# Altium footprint library Footprint_Emile.PcbLib: 28 footprints (part 2 of 2)
Each footprint in its own frame and in the unit in brackets; x right, y up, seen from the top. Pads: shape width x height; smd on the part's side, far side on the other; paste and mask are expansions set on the pad; w line width, h text height; cw(c..) or ccw(c..) is an arc to the next point about the centre after c.
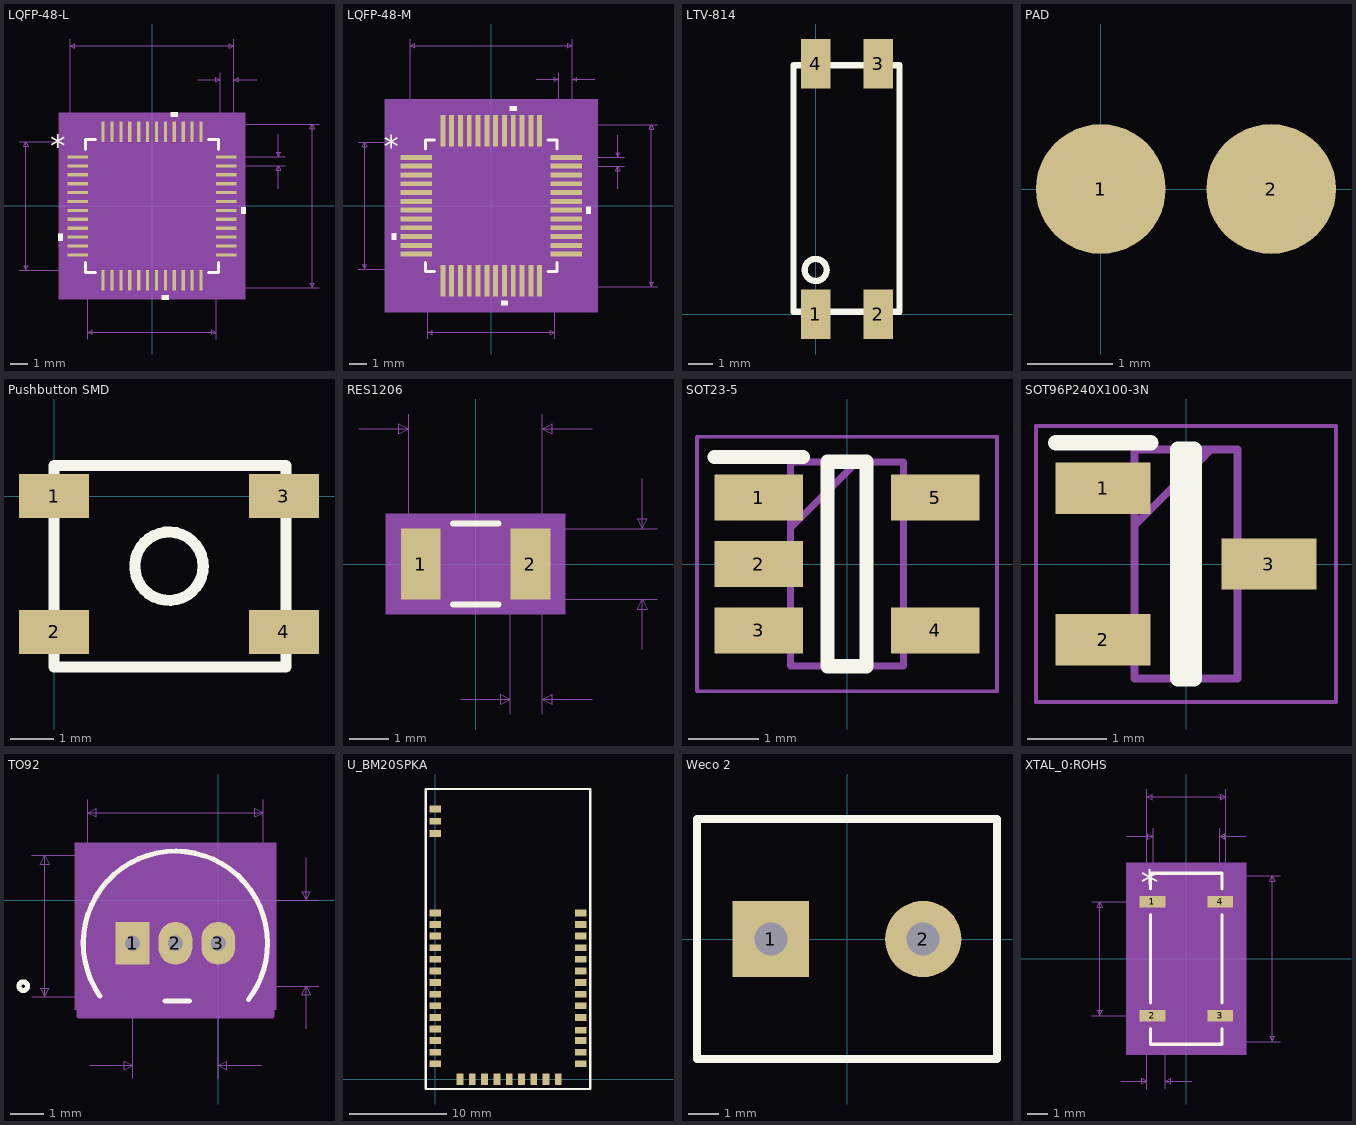
[diagram p1: the footprints below, top view; thin cyan lines are the x and y axes]

## LQFP-48-L [mil]
pads (48):
  rect 46x7 smd paste+0 mask+0: 1(-164,108.27) 2(-164,88.58) 3(-164,68.9) 4(-164,49.21) 5(-164,29.53) 6(-164,9.84) 7(-164,-9.84) 8(-164,-29.53) 9(-164,-49.21) 10(-164,-68.9) 11(-164,-88.58) 12(-164,-108.27) 25(164,-108.27) 26(164,-88.58) 27(164,-68.9) 28(164,-49.21) 29(164,-29.53) 30(164,-9.84) 31(164,9.84) 32(164,29.53) 33(164,49.21) 34(164,68.9) 35(164,88.58) 36(164,108.27)
  rect 7x46 smd paste+0 mask+0: 13(-108.27,-164) 14(-88.58,-164) 15(-68.9,-164) 16(-49.21,-164) 17(-29.53,-164) 18(-9.84,-164) 19(9.84,-164) 20(29.53,-164) 21(49.21,-164) 22(68.9,-164) 23(88.58,-164) 24(108.27,-164) 37(108.27,164) 38(88.58,164) 39(68.9,164) 40(49.21,164) 41(29.53,164) 42(9.84,164) 43(-9.84,164) 44(-29.53,164) 45(-49.21,164) 46(-68.9,164) 47(-88.58,164) 48(-108.27,164)
Top Overlay:
  region: -197,-61.4 -207,-61.4 -207,-76.4 -197,-76.4
  region: 37.03,-197 22.03,-197 22.03,-207 37.03,-207
  region: 197,-2.34 207,-2.34 207,-17.34 197,-17.34
  region: 56.71,197 41.71,197 41.71,207 56.71,207
  lines w6: -147,-124.87 -147,-147 -124.87,-147 ; -147,124.87 -147,147 -124.87,147 ; 124.87,-147 147,-147 147,-124.87 ; 124.87,147 147,147 147,124.87
  text "*" at -224.5,108.11 h50
Mechanical 5:
  region: 206,-206 -206,-206 -206,206 206,206
Mechanical 7:
  lines w1: -294,-142 -108.27,-142 ; -294,142 -108.27,142 ; -181,108.27 -181,369 ; -142,-294 -142,-108.27 ; 101,279 151,279 ; 108.27,-181 369,-181 ; 108.27,181 369,181 ; 142,-294 142,-108.27 ; 151,108.27 151,294 ; 164,88.58 294,88.58 ; 164,108.27 294,108.27 ; 181,294 181,108.27 181,369 ; 231,279 181,279 ; 279,38.58 279,88.58 ; 279,158.27 279,108.27 ; -279,-142 -279,142 ; -279,-142 -284,-132 -274,-132 -279,-142 ; -279,142 -284,132 -274,132 -279,142 ; -181,354 181,354 ; -181,354 -171,359 -171,349 -181,354 ; -142,-279 142,-279 ; -142,-279 -132,-274 -132,-284 -142,-279 ; 142,-279 132,-274 132,-284 142,-279 ; 151,279 141,284 141,274 151,279 ; 181,279 191,284 191,274 181,279 ; 181,354 171,359 171,349 181,354 ; 279,88.58 274,78.58 284,78.58 279,88.58 ; 279,108.27 274,118.27 284,118.27 279,108.27 ; 354,-181 354,181 ; 354,-181 349,-171 359,-171 354,-181 ; 354,181 349,171 359,171 354,181
  text "Default Horiz Padstyle: RX7Y46D0T" at -412.5,-429 h50
  text "Default Vert Padstyle: RX7Y46D0T" at -400,-489 h50
  text "Alt 1 Padstyle: OX60Y90D30P" at -337.5,-669 h50
  text "Alt 2 Padstyle: OX90Y60D30P" at -337.5,-729 h50
  text "0.02in/0.5mm" at 299,85.93 h25
  text "0.03in/0.762mm" at 78.5,299 h25
  text "0.362in/9.195mm" at -93.75,374 h25
  text "0.284in/7.214mm" at -93.75,-324 h25
  text "0.284in/7.214mm" at -486.5,-12.5 h25
  text "0.362in/9.195mm" at 374,-12.5 h25
Mechanical 13:
  drawing of 197 lines, arcs and shapes, not listed
  text "*" at -139.5,93.11 h50
Mechanical 15:
  region: -115.77,-146 -146,-146 -146,-115.77 -191,-115.77 -191,115.77 -146,115.77 -146,146 -115.77,146 -115.77,191 115.77,191 115.77,146 146,146 146,115.77 191,115.77 191,-115.77 146,-115.77 146,-146 115.77,-146 115.77,-191 -115.77,-191
  lines w6: -191,-115.77 -146,-115.77 -146,-146 -115.77,-146 -115.77,-191 115.77,-191 115.77,-146 146,-146 146,-115.77 191,-115.77 191,115.77 146,115.77 146,146 115.77,146 115.77,191 -115.77,191 -115.77,146 -146,146 -146,115.77 -191,115.77 -191,-115.77
3D body: height 10, standoff 0, extent 0,0 10,10

## LQFP-48-M [mil]
pads (48):
  rect 70x11 smd paste+0 mask+0: 1(-168,108.27) 2(-168,88.58) 3(-168,68.9) 4(-168,49.21) 5(-168,29.53) 6(-168,9.84) 7(-168,-9.84) 8(-168,-29.53) 9(-168,-49.21) 10(-168,-68.9) 11(-168,-88.58) 12(-168,-108.27) 25(168,-108.27) 26(168,-88.58) 27(168,-68.9) 28(168,-49.21) 29(168,-29.53) 30(168,-9.84) 31(168,9.84) 32(168,29.53) 33(168,49.21) 34(168,68.9) 35(168,88.58) 36(168,108.27)
  rect 11x70 smd paste+0 mask+0: 13(-108.27,-168) 14(-88.58,-168) 15(-68.9,-168) 16(-49.21,-168) 17(-29.53,-168) 18(-9.84,-168) 19(9.84,-168) 20(29.53,-168) 21(49.21,-168) 22(68.9,-168) 23(88.58,-168) 24(108.27,-168) 37(108.27,168) 38(88.58,168) 39(68.9,168) 40(49.21,168) 41(29.53,168) 42(9.84,168) 43(-9.84,168) 44(-29.53,168) 45(-49.21,168) 46(-68.9,168) 47(-88.58,168) 48(-108.27,168)
Top Overlay:
  region: -213,-61.4 -223,-61.4 -223,-76.4 -213,-76.4
  region: 37.03,-213 22.03,-213 22.03,-223 37.03,-223
  region: 213,-2.34 223,-2.34 223,-17.34 213,-17.34
  region: 56.71,213 41.71,213 41.71,223 56.71,223
  lines w6: -147,-126.87 -147,-147 -126.87,-147 ; -147,126.87 -147,147 -126.87,147 ; 126.87,-147 147,-147 147,-126.87 ; 126.87,147 147,147 147,126.87
  text "*" at -240.5,108.11 h50
Mechanical 5:
  region: 238,-238 -238,-238 -238,238 238,238
Mechanical 7:
  lines w1: -298,-142 -108.27,-142 ; -298,142 -108.27,142 ; -181,108.27 -181,373 ; -142,-298 -142,-108.27 ; 101,283 151,283 ; 108.27,-181 373,-181 ; 108.27,181 373,181 ; 142,-298 142,-108.27 ; 151,108.27 151,298 ; 168,88.58 298,88.58 ; 168,108.27 298,108.27 ; 181,298 181,108.27 181,373 ; 231,283 181,283 ; 283,38.58 283,88.58 ; 283,158.27 283,108.27 ; -283,-142 -283,142 ; -283,-142 -288,-132 -278,-132 -283,-142 ; -283,142 -288,132 -278,132 -283,142 ; -181,358 181,358 ; -181,358 -171,363 -171,353 -181,358 ; -142,-283 142,-283 ; -142,-283 -132,-278 -132,-288 -142,-283 ; 142,-283 132,-278 132,-288 142,-283 ; 151,283 141,288 141,278 151,283 ; 181,283 191,288 191,278 181,283 ; 181,358 171,363 171,353 181,358 ; 283,88.58 278,78.58 288,78.58 283,88.58 ; 283,108.27 278,118.27 288,118.27 283,108.27 ; 358,-181 358,181 ; 358,-181 353,-171 363,-171 358,-181 ; 358,181 353,171 363,171 358,181
  text "Default Horiz Padstyle: RX11Y70D0T" at -425,-433 h50
  text "Default Vert Padstyle: RX11Y70D0T" at -412.5,-493 h50
  text "Alt 1 Padstyle: OX60Y90D30P" at -337.5,-673 h50
  text "Alt 2 Padstyle: OX90Y60D30P" at -337.5,-733 h50
  text "0.02in/0.5mm" at 303,85.93 h25
  text "0.03in/0.762mm" at 78.5,303 h25
  text "0.362in/9.195mm" at -93.75,378 h25
  text "0.284in/7.214mm" at -93.75,-328 h25
  text "0.284in/7.214mm" at -490.5,-12.5 h25
  text "0.362in/9.195mm" at 378,-12.5 h25
Mechanical 13:
  drawing of 197 lines, arcs and shapes, not listed
  text "*" at -139.5,93.11 h50
Mechanical 15:
  region: -133.77,-162 -162,-162 -162,-133.77 -223,-133.77 -223,133.77 -162,133.77 -162,162 -133.77,162 -133.77,223 133.77,223 133.77,162 162,162 162,133.77 223,133.77 223,-133.77 162,-133.77 162,-162 133.77,-162 133.77,-223 -133.77,-223
  lines w6: -223,-133.77 -162,-133.77 -162,-162 -133.77,-162 -133.77,-223 133.77,-223 133.77,-162 162,-162 162,-133.77 223,-133.77 223,133.77 162,133.77 162,162 133.77,162 133.77,223 -133.77,223 -133.77,162 -162,162 -162,133.77 -223,133.77 -223,-133.77
3D body: height 10, standoff 0, extent 0,0 10,10

## LTV-814 [mm]
pads (4):
  rect 1.2x2 smd: 1(0,0) 2(2.54,0) 3(2.54,10.16) 4(0,10.16)
Top Overlay:
  circle w0.254: c0,1.8 r0.447
  lines w0.254: -0.9,0.1 3.4,0.1 3.4,10.1 -0.9,10.1 -0.9,0.1

## PAD [mil] "pad for connection"
pads (2):
  round 60 smd: 1(0,0) 2(78.74,0)

## Pushbutton SMD [mm]
pads (4):
  rect 1.6x1 smd: 1(0,0) 2(0,-3.1) 3(5.25,0) 4(5.25,-3.1)
Top Overlay:
  circle w0.254: c2.625,-1.6 r0.781
  lines w0.254: 0,-3.9 5.3,-3.9 5.3,0.7 0,0.7 0,-3.9
3D body: height 7, standoff 0, extent 1.111,-3.097 3.9,-0.303
3D body: height 2.5, standoff 0, extent 0,-3.9 5.3,0.7

## RES1206 [mil]
pads (2):
  rect 40x71 smd paste+0 mask+0: 1(-55,0) 2(55,0)
Top Overlay:
  lines w6: -22.89,-40.5 22.89,-40.5 ; -22.89,40.5 22.89,40.5
Mechanical 5:
  region: 90,-50.5 -90,-50.5 -90,50.5 90,50.5
Mechanical 7:
  lines w1: -117,135.5 -67,135.5 ; -67,0 -67,150.5 ; -15,-135.5 35,-135.5 ; 0,-35.5 182,-35.5 ; 0,35.5 182,35.5 ; 35,-150.5 35,0 ; 67,-150.5 67,0 67,150.5 ; 117,-135.5 67,-135.5 ; 117,135.5 67,135.5 ; 167,-85.5 167,-35.5 ; 167,85.5 167,35.5 ; -67,135.5 -77,140.5 -77,130.5 -67,135.5 ; 35,-135.5 25,-130.5 25,-140.5 35,-135.5 ; 67,-135.5 77,-130.5 77,-140.5 67,-135.5 ; 67,135.5 77,140.5 77,130.5 67,135.5 ; 167,-35.5 162,-45.5 172,-45.5 167,-35.5 ; 167,35.5 162,45.5 172,45.5 167,35.5
  text "Default Padstyle: RX40Y71D0T" at -350,-305.5 h50
  text "Alt 1 Padstyle: OX60Y90D30P" at -337.5,-365.5 h50
  text "Alt 2 Padstyle: OX90Y60D30P" at -337.5,-425.5 h50
  text "0.071in/1.803mm" at 187,-12.5 h25
  text "0.134in/3.404mm" at -93.75,155.5 h25
  text "0.032in/0.813mm" at -42.75,-180.5 h25
Mechanical 13:
  lines w1: -67,-35.5 -67,35.5 ; -67,-35.5 -35,-35.5 -35,35.5 -67,35.5 ; -67,-35.5 67,-35.5 ; -67,-35.5 -67,35.5 ; -67,35.5 67,35.5 ; 67,-35.5 35,-35.5 35,35.5 67,35.5 ; 67,-35.5 67,35.5 ; 67,-35.5 67,35.5
Mechanical 15:
  region: 85,-45.5 -85,-45.5 -85,45.5 85,45.5
  lines w6: -85,-45.5 -85,45.5 85,45.5 85,-45.5 -85,-45.5
3D body: height 10, standoff 0, extent 0,0 10,10
3D body "R1206.step": height 30, standoff 0, extent -67,-35.51 67.01,35.52

## SOT23-5 [mm]
pads (5):
  rect 1.25x0.65 smd: 1(-1.25,0.94) 2(-1.25,0) 3(-1.25,-0.94) 4(1.25,-0.94) 5(1.25,0.94)
Top Overlay:
  lines w0.2: -1.875,1.514 -0.625,1.514 ; -0.275,-1.448 -0.275,1.448 0.275,1.448 0.275,-1.448 -0.275,-1.448
Mechanical 13:
  lines w0.1: -0.8,0.508 0.14,1.448 ; -0.8,-1.448 -0.8,1.448 0.8,1.448 0.8,-1.448 -0.8,-1.448
Mechanical 15:
  lines w0.05: -2.125,-1.8 -2.125,1.8 2.125,1.8 2.125,-1.8 -2.125,-1.8
3D body "RT9193-28GB.stp": height 1.3, standoff 0, extent -1.397,-1.448 1.397,1.448

## SOT96P240X100-3N [mm]
pads (3):
  rect 1.2x0.65 smd: 1(-1.05,0.96) 2(-1.05,-0.96) 3(1.05,0)
Top Overlay:
  lines w0.2: -1.65,1.535 -0.45,1.535 ; -0.1,-1.45 -0.1,1.45 0.1,1.45 0.1,-1.45 -0.1,-1.45
Mechanical 13:
  lines w0.1: -0.65,0.49 0.31,1.45 ; -0.65,-1.45 -0.65,1.45 0.65,1.45 0.65,-1.45 -0.65,-1.45
Mechanical 15:
  lines w0.05: -1.9,-1.75 -1.9,1.75 1.9,1.75 1.9,-1.75 -1.9,-1.75
3D body "MOSFETSOT23.stp": height 1, standoff 0, extent -1.2,-1.45 1.2,1.45
3D body "DMN65D8L-7.stp": height 1, standoff 0, extent -1.2,-1.45 1.2,1.45

## TO92 [mm]
pads (3):
  rect 1x1.27 hole 0.45: 1(-2.54,-1.27)
  oval 1x1.27 hole 0.45: 2(-1.27,-1.27) 3(0,-1.27)
Top Overlay:
  circle w0.152: c-5.779,-2.54 r0.127
  lines w0.152: -3.508,-2.835 cw(c-1.27,-1.27) 1.46,-1.27 cw(c-1.27,-1.27) 0.894,-2.935 ; -1.572,-2.984 -0.86,-2.984
Mechanical 1:
  circle w0.1: c0,-1.27 r0.192
  circle w0.1: c-1.27,-1.27 r0.192
  circle w0.1: c-2.54,-1.27 r0.192
  lines w0.1: 0.745,-2.795 -3.294,-2.795 cw(c-1.27,-1.27) 0.75,-2.8
Mechanical 5:
  region: -4.255,1.714 1.714,1.714 1.714,-3.238 -4.255,-3.238
Mechanical 7:
  lines w0.025: -5.524,-2.857 -1.27,-2.857 ; -5.524,1.333 -1.27,1.333 ; -3.873,-1.27 -3.873,2.984 ; -3.81,-4.889 -2.54,-4.889 ; -2.54,-5.271 -2.54,-2.54 ; -1.016,0 2.984,0 ; 0,-5.271 0,-2.54 2.984,-2.54 ; 1.27,-4.889 0,-4.889 ; 1.333,-1.27 1.333,2.984 ; 2.603,-3.81 2.603,-2.54 ; 2.603,1.27 2.603,0 ; -5.143,-2.857 -5.016,-2.603 -5.271,-2.603 -5.143,-2.857 ; -5.143,-2.857 -5.143,1.333 ; -5.143,1.333 -5.016,1.079 -5.271,1.079 -5.143,1.333 ; -3.873,2.603 -3.619,2.476 -3.619,2.73 -3.873,2.603 ; -3.873,2.603 1.333,2.603 ; -2.54,-4.889 -2.794,-5.016 -2.794,-4.763 -2.54,-4.889 ; 0,-4.889 0.254,-5.016 0.254,-4.763 0,-4.889 ; 1.333,2.603 1.079,2.476 1.079,2.73 1.333,2.603 ; 2.603,-2.54 2.73,-2.794 2.476,-2.794 2.603,-2.54 ; 2.603,0 2.73,0.254 2.476,0.254 2.603,0
  text "0.165in/4.191mm" at -10.414,-1.587 h0.64
  text "0.1in/2.54mm" at -3.175,-6.032 h0.64
  text "0.1in/2.54mm" at 3.111,-1.587 h0.64
  text "0.205in/5.207mm" at -3.651,3.111 h0.64
  text "Alt 2 Padstyle: OX90Y60D30P" at -9.842,-14.287 h1.27
  text "Alt 1 Padstyle: OX60Y90D30P" at -9.842,-12.763 h1.27
  text "Pin 1 Padstyle: EX50Y50D30P" at -9.842,-11.239 h1.27
  text "Default Padstyle: SX50Y50D30P" at -10.477,-9.716 h1.27
  text "Pinout: 1, 2, 3" at -6.032,-8.191 h1.27
Mechanical 13:
  circle w0: c-3.619,-2.54 r0.127
  lines w0: -3.334,-2.857 cw(c-1.27,-1.27) 0.794,-2.857
  lines w0.025: -3.334,-2.857 0.794,-2.857
  lines w0.152: -2.794,-2.54 -2.286,-2.54 ; -2.54,-2.794 -2.54,-2.286
Mechanical 15:
  region: 1.587,-3.429 -4.127,-3.429 -4.127,1.587 1.587,1.587
  lines w0.152: -4.127,-3.429 1.587,-3.429 1.587,1.587 -4.127,1.587 -4.127,-3.429
3D body: height 0.25, standoff 0, extent -2.54,-1.27 -2.54,-1.27
3D body: height 4, standoff 0.5, extent -3.815,-2.8 1.275,1.264
3D body: height 0.5, standoff 0, extent -0.192,-1.462 0.192,-1.078
3D body: height 0.5, standoff 0, extent -1.462,-1.462 -1.078,-1.078
3D body: height 0.5, standoff 0, extent -2.732,-1.462 -2.348,-1.078

## U_BM20SPKA [mm]
pads (40):
  rect 1.2x0.7 smd: 1(0,17.2) 2(0,16) 3(0,14.8) 4(0,13.6) 5(0,12.4) 6(0,11.2) 7(0,10) 8(0,8.8) 9(0,7.6) 10(0,6.4) 11(0,5.2) 12(0,4) 13(0,2.8) 14(0,1.6) 24(15,1.6) 25(15,2.8) 26(15,4) 27(15,5.08) 28(15,6.4) 29(15,7.6) 30(15,8.8) 31(15,10) 32(15,11.2) 33(15,12.4) 34(15,13.6) 35(15,14.8) 36(15,16) 37(15,17.2) 38(0,26.67) 38(0,27.94) 40(0,25.4)
  rect 0.7x1.2 smd: 15(2.54,0) 16(3.81,0) 17(5.08,0) 18(6.35,0) 19(7.62,0) 20(8.89,0) 21(10.16,0) 22(11.43,0) 23(12.7,0)
Top Overlay:
  lines w0.254: -1,-1 -1,30 16,30 16,-1 -1,-1
3D body: height 2.5, standoff 0, extent 0,0 15,18.5
3D body: height 2.5, standoff 0, extent 0,0 0,0
3D body: height 0.6, standoff 0, extent 0,0 15,29

## Weco 2 [mm]
pads (2):
  rect 2.54x2.54 hole 1.1: 1(-2.54,0)
  round 2.54 hole 1.1: 2(2.54,0)
Top Overlay:
  lines w0.254: -5,-4 -5,4 5,4 5,-4 0,-4 -5,-4
3D body: height 10, standoff 0, extent -5,-4 5,4

## XTAL_0:ROHS [mm]
pads (4):
  rect 1.239x0.568 smd paste+0 mask+0: 1(-1.635,2.75) 2(-1.635,-2.75) 3(1.635,-2.75) 4(1.635,2.75)
Top Overlay:
  lines w0.152: -1.727,-3.367 -1.727,-4.127 1.727,-4.127 1.727,-3.367 ; -1.727,-2.133 -1.727,2.133 ; -1.727,3.367 -1.727,4.127 1.727,4.127 1.727,3.367 ; 1.727,-2.133 1.727,2.133
  text "*" at -2.207,3.034 h1.27
Mechanical 5:
  region: 2.89,-4.635 -2.89,-4.635 -2.89,4.635 2.89,4.635
Mechanical 7:
  lines w0.025: -4.557,-2.75 -1.635,-2.75 ; -4.557,2.75 -1.635,2.75 ; -3.175,-5.905 -1.905,-5.905 ; -2.87,5.905 -1.6,5.905 ; -1.905,-6.286 -1.905,0 -1.905,8.191 ; -1.6,0 -1.6,6.286 ; -1.016,-6.286 -1.016,0 ; 0,-4 4.521,-4 ; 0,4 4.521,4 ; 0.254,-5.905 -1.016,-5.905 ; 1.6,0 1.6,6.286 ; 1.905,0 1.905,8.191 ; 2.87,5.905 1.6,5.905 ; -4.176,-2.75 -4.176,2.75 ; -4.176,-2.75 -4.303,-2.496 -4.049,-2.496 -4.176,-2.75 ; -4.176,2.75 -4.303,2.496 -4.049,2.496 -4.176,2.75 ; -1.905,-5.905 -2.159,-5.779 -2.159,-6.032 -1.905,-5.905 ; -1.905,7.81 1.905,7.81 ; -1.905,7.81 -1.651,7.938 -1.651,7.683 -1.905,7.81 ; -1.6,5.905 -1.854,6.032 -1.854,5.779 -1.6,5.905 ; -1.016,-5.905 -0.762,-5.779 -0.762,-6.032 -1.016,-5.905 ; 1.6,5.905 1.854,6.032 1.854,5.779 1.6,5.905 ; 1.905,7.81 1.651,7.938 1.651,7.683 1.905,7.81 ; 4.14,-4 4.14,4 ; 4.14,-4 4.013,-3.746 4.267,-3.746 4.14,-4 ; 4.14,4 4.013,3.746 4.267,3.746 4.14,4
  text "Default Padstyle: r124_57" at -7.938,-9.08 h1.27
  text "Pin 1 Padstyle: r124_57" at -7.302,-10.604 h1.27
  text "Alt 1 Padstyle: b152_229h76" at -8.572,-15.176 h1.27
  text "Alt 2 Padstyle: b229_152h76" at -8.572,-16.7 h1.27
  text "0.126in/3.2mm" at -2.064,6.413 h0.64
  text "0.15in/3.81mm" at -2.064,8.319 h0.64
  text "0.315in/8.001mm" at 4.648,-0.318 h0.64
  text "0.217in/5.5mm" at -8.811,-0.318 h0.64
  text "0.035in/0.889mm" at -3.842,-7.048 h0.64
Mechanical 13:
  lines w0: -0.305,4 ccw(c0,4) 0.305,4
  lines w0.025: -1.905,-3.004 -1.905,-2.496 -1.6,-2.496 -1.6,-3.004 -1.905,-3.004 ; -1.905,2.496 -1.905,3.004 -1.6,3.004 -1.6,2.496 -1.905,2.496 ; -1.6,-4 1.6,-4 1.6,4 -1.6,4 -1.6,-4 ; 1.6,-3.004 1.6,-2.496 1.905,-2.496 1.905,-3.004 1.6,-3.004 ; 1.6,2.496 1.6,3.004 1.905,3.004 1.905,2.496 1.6,2.496
  text "*" at -1.445,2.048 h1.27
Mechanical 15:
  region: -1.854,-3.258 -2.763,-3.258 -2.763,3.258 -1.854,3.258 -1.854,4.255 1.854,4.255 1.854,3.258 2.763,3.258 2.763,-3.258 1.854,-3.258 1.854,-4.255 -1.854,-4.255
  lines w0.152: -2.763,-3.258 -2.763,3.258 -1.854,3.258 -1.854,4.255 1.854,4.255 1.854,3.258 2.763,3.258 2.763,-3.258 1.854,-3.258 1.854,-4.255 -1.854,-4.255 -1.854,-3.258 -2.763,-3.258
3D body "XTAL_0ROHS.step": height 1.7, standoff -0.19, extent -1.81,-4 1.81,4
3D body: height 0.25, standoff 0, extent 0,0 0.254,0.254